# Altium integrated library Wurth_Elektronik_Passive_rev16a.IntLib: 1143 symbols (part 14 of 28)
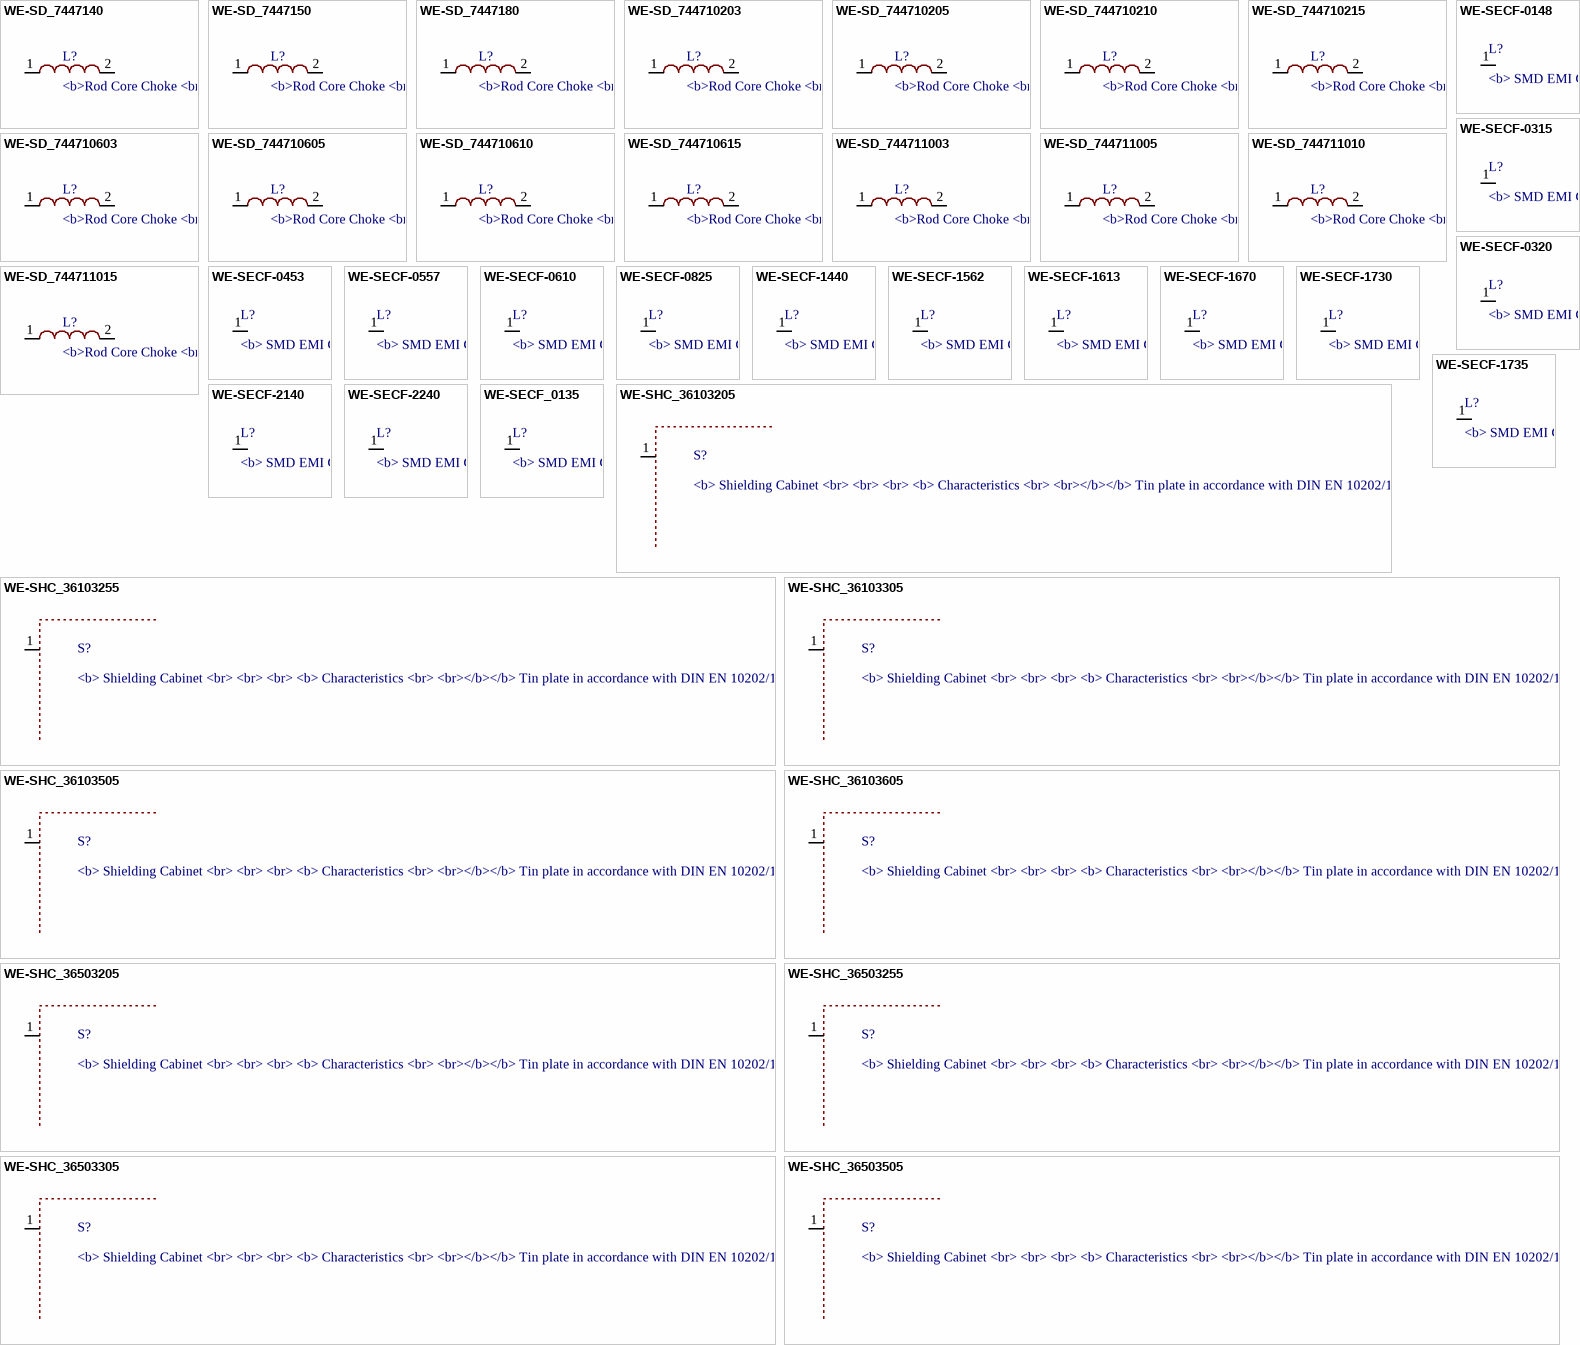
[diagram p71: symbols WE-SD_7447140 to WE-SHC_36503505]

## WE-SECF-1613
designator L?, comment <b> SMD EMI Contact Finger / <br> / <br> / <br><b> Characteristics / <br> / <br></b></b> Material: Copper Beryllium (CuBe) gold-plated (AU) / <br> / <br> Corrosion resistant / <br> / <br> Wear resistant / <br> / <br> High temperatures and mechanical weight have no influence on the excellent connection properties / <br> / <br> Reliable solderability / <br> / <br> Tape & reel packaging / <br> / <br> Perfectly suited for automated placement / <br> / <br> Different types and sizes available / <br> / <br> / <br><b> Applications / <br> / <br></b> Contact between PCB's ground and housing / <br> / <br> Low impedance RF connection between PCBs and/or PCB and metal case / <br> / <br> / </b><br><a href="<br><a href="http://katalog.we-online.de/media/images/eisos/AbsSESF_pf2.jpg" title="Enlarge picture"> / <img src="http://katalog.we-online.de/media/images/eisos/AbsSESF_pf2.jpg" width="320"></a><p> / Details see: <a href="http://katalog.we-online.de/en/pbs/WE-SECF?">http://katalog.we-online.de/en/pbs/WE-SECF?</a><p> / </b> / </b>Updated  by  Dan Xu 2014-07-15<br> / </b>2014 (C) Wurth Elektronik
MANUFACTURER: Würth Elektronik eiSos GmbH; CREATED-BY: Christin Otto; COMPANY-URL: http://www.we-online.de; CREATED-DATE: MAR 2013; DATASHEET-URL: http://katalog.we-online.de/pbs/datasheet/331161702513.pdf
footprint WE-SECF_1613
pins: 1 P$1 (power)

## WE-SECF-1670
designator L?, comment <b> SMD EMI Contact Finger / <br> / <br> / <br><b> Characteristics / <br> / <br></b></b> Material: Copper Beryllium (CuBe) gold-plated (AU) / <br> / <br> Corrosion resistant / <br> / <br> Wear resistant / <br> / <br> High temperatures and mechanical weight have no influence on the excellent connection properties / <br> / <br> Reliable solderability / <br> / <br> Tape & reel packaging / <br> / <br> Perfectly suited for automated placement / <br> / <br> Different types and sizes available / <br> / <br> / <br><b> Applications / <br> / <br></b> Contact between PCB's ground and housing / <br> / <br> Low impedance RF connection between PCBs and/or PCB and metal case / <br> / <br> / </b><br><a href="<br><a href="http://katalog.we-online.de/media/images/eisos/AbsSESF_pf2.jpg" title="Enlarge picture"> / <img src="http://katalog.we-online.de/media/images/eisos/AbsSESF_pf2.jpg" width="320"></a><p> / Details see: <a href="http://katalog.we-online.de/en/pbs/WE-SECF?">http://katalog.we-online.de/en/pbs/WE-SECF?</a><p> / </b> / </b>Updated  by  Dan Xu 2014-07-15<br> / </b>2014 (C) Wurth Elektronik
MANUFACTURER: Würth Elektronik eiSos GmbH; CREATED-BY: Christin Otto; COMPANY-URL: http://www.we-online.de; CREATED-DATE: MAR 2013; DATASHEET-URL: http://katalog.we-online.de/pbs/datasheet/331161452070.pdf
footprint WE-SECF_1670
pins: 1 P$1 (power)

## WE-SECF-1730
designator L?, comment <b> SMD EMI Contact Finger / <br> / <br> / <br><b> Characteristics / <br> / <br></b></b> Material: Copper Beryllium (CuBe) gold-plated (AU) / <br> / <br> Corrosion resistant / <br> / <br> Wear resistant / <br> / <br> High temperatures and mechanical weight have no influence on the excellent connection properties / <br> / <br> Reliable solderability / <br> / <br> Tape & reel packaging / <br> / <br> Perfectly suited for automated placement / <br> / <br> Different types and sizes available / <br> / <br> / <br><b> Applications / <br> / <br></b> Contact between PCB's ground and housing / <br> / <br> Low impedance RF connection between PCBs and/or PCB and metal case / <br> / <br> / </b><br><a href="<br><a href="http://katalog.we-online.de/media/images/eisos/AbsSESF_pf2.jpg" title="Enlarge picture"> / <img src="http://katalog.we-online.de/media/images/eisos/AbsSESF_pf2.jpg" width="320"></a><p> / Details see: <a href="http://katalog.we-online.de/en/pbs/WE-SECF?">http://katalog.we-online.de/en/pbs/WE-SECF?</a><p> / </b> / </b>Updated  by  Dan Xu 2014-07-15<br> / </b>2014 (C) Wurth Elektronik
MANUFACTURER: Würth Elektronik eiSos GmbH; CREATED-BY: Christin Otto; COMPANY-URL: http://www.we-online.de; CREATED-DATE: MAR 2013; DATASHEET-URL: http://katalog.we-online.de/pbs/datasheet/331171302030.pdf
footprint WE-SECF_1730
pins: 1 P$1 (power)

## WE-SECF-1735
designator L?, comment <b> SMD EMI Contact Finger / <br> / <br> / <br><b> Characteristics / <br> / <br></b></b> Material: Copper Beryllium (CuBe) gold-plated (AU) / <br> / <br> Corrosion resistant / <br> / <br> Wear resistant / <br> / <br> High temperatures and mechanical weight have no influence on the excellent connection properties / <br> / <br> Reliable solderability / <br> / <br> Tape & reel packaging / <br> / <br> Perfectly suited for automated placement / <br> / <br> Different types and sizes available / <br> / <br> / <br><b> Applications / <br> / <br></b> Contact between PCB's ground and housing / <br> / <br> Low impedance RF connection between PCBs and/or PCB and metal case / <br> / <br> / </b><br><a href="<br><a href="http://katalog.we-online.de/media/images/eisos/AbsSESF_pf2.jpg" title="Enlarge picture"> / <img src="http://katalog.we-online.de/media/images/eisos/AbsSESF_pf2.jpg" width="320"></a><p> / Details see: <a href="http://katalog.we-online.de/en/pbs/WE-SECF?">http://katalog.we-online.de/en/pbs/WE-SECF?</a><p> / </b> / </b>Updated  by  Dan Xu 2014-07-15<br> / </b>2014 (C) Wurth Elektronik
MANUFACTURER: Würth Elektronik eiSos GmbH; CREATED-BY: Christin Otto; COMPANY-URL: http://www.we-online.de; CREATED-DATE: MAR 2013; DATASHEET-URL: http://katalog.we-online.de/pbs/datasheet/331171302035.pdf
footprint WE-SECF_1735
pins: 1 P$1 (power)

## WE-SECF-2140
designator L?, comment <b> SMD EMI Contact Finger / <br> / <br> / <br><b> Characteristics / <br> / <br></b></b> Material: Copper Beryllium (CuBe) gold-plated (AU) / <br> / <br> Corrosion resistant / <br> / <br> Wear resistant / <br> / <br> High temperatures and mechanical weight have no influence on the excellent connection properties / <br> / <br> Reliable solderability / <br> / <br> Tape & reel packaging / <br> / <br> Perfectly suited for automated placement / <br> / <br> Different types and sizes available / <br> / <br> / <br><b> Applications / <br> / <br></b> Contact between PCB's ground and housing / <br> / <br> Low impedance RF connection between PCBs and/or PCB and metal case / <br> / <br> / </b><br><a href="<br><a href="http://katalog.we-online.de/media/images/eisos/AbsSESF_pf2.jpg" title="Enlarge picture"> / <img src="http://katalog.we-online.de/media/images/eisos/AbsSESF_pf2.jpg" width="320"></a><p> / Details see: <a href="http://katalog.we-online.de/en/pbs/WE-SECF?">http://katalog.we-online.de/en/pbs/WE-SECF?</a><p> / </b> / </b>Updated  by  Dan Xu 2014-07-15<br> / </b>2014 (C) Wurth Elektronik
MANUFACTURER: Würth Elektronik eiSos GmbH; CREATED-BY: Christin Otto; COMPANY-URL: http://www.we-online.de; CREATED-DATE: MAR 2013; DATASHEET-URL: http://katalog.we-online.de/pbs/datasheet/331211503040.pdf
footprint WE-SECF_2140
pins: 1 P$1 (power)

## WE-SECF-2240
designator L?, comment <b> SMD EMI Contact Finger / <br> / <br> / <br><b> Characteristics / <br> / <br></b></b> Material: Copper Beryllium (CuBe) gold-plated (AU) / <br> / <br> Corrosion resistant / <br> / <br> Wear resistant / <br> / <br> High temperatures and mechanical weight have no influence on the excellent connection properties / <br> / <br> Reliable solderability / <br> / <br> Tape & reel packaging / <br> / <br> Perfectly suited for automated placement / <br> / <br> Different types and sizes available / <br> / <br> / <br><b> Applications / <br> / <br></b> Contact between PCB's ground and housing / <br> / <br> Low impedance RF connection between PCBs and/or PCB and metal case / <br> / <br> / </b><br><a href="<br><a href="http://katalog.we-online.de/media/images/eisos/AbsSESF_pf2.jpg" title="Enlarge picture"> / <img src="http://katalog.we-online.de/media/images/eisos/AbsSESF_pf2.jpg" width="320"></a><p> / Details see: <a href="http://katalog.we-online.de/en/pbs/WE-SECF?">http://katalog.we-online.de/en/pbs/WE-SECF?</a><p> / </b> / </b>Updated  by  Dan Xu 2014-07-15<br> / </b>2014 (C) Wurth Elektronik
MANUFACTURER: Würth Elektronik eiSos GmbH; CREATED-BY: Christin Otto; COMPANY-URL: http://www.we-online.de; CREATED-DATE: MAR 2013; DATASHEET-URL: http://katalog.we-online.de/pbs/datasheet/331221602040.pdf
footprint WE-SECF_2240
pins: 1 P$1 (power)

## WE-SECF_0135
designator L?, comment <b> SMD EMI Contact Finger / <br> / <br> / <br><b> Characteristics / <br> / <br></b></b> Material: Copper Beryllium (CuBe) gold-plated (AU) / <br> / <br> Corrosion resistant / <br> / <br> Wear resistant / <br> / <br> High temperatures and mechanical weight have no influence on the excellent connection properties / <br> / <br> Reliable solderability / <br> / <br> Tape & reel packaging / <br> / <br> Perfectly suited for automated placement / <br> / <br> Different types and sizes available / <br> / <br> / <br><b> Applications / <br> / <br></b> Contact between PCB's ground and housing / <br> / <br> Low impedance RF connection between PCBs and/or PCB and metal case / <br> / <br> / </b><br><a href="<br><a href="http://katalog.we-online.de/media/images/eisos/AbsSESF_pf2.jpg" title="Enlarge picture"> / <img src="http://katalog.we-online.de/media/images/eisos/AbsSESF_pf2.jpg" width="320"></a><p> / Details see: <a href="http://katalog.we-online.de/en/pbs/WE-SECF?">http://katalog.we-online.de/en/pbs/WE-SECF?</a><p> / </b> / </b>Updated  by  Dan Xu 2014-07-15<br> / </b>2014 (C) Wurth Elektronik
footprint WE-SECF_0135
pins: 1 P$1 (power)

## WE-SHC_36103205
designator S?, comment <b> Shielding Cabinet / <br> / <br> / <br> <b> Characteristics / <br> / <br></b></b> Tin plate in accordance with DIN EN 10202/10203 / <br> / <br> Shielding effectiveness up to 55 dB / <br> / <br> Two-part case consisting of a solderable grid frame (SMD/THT) and a removable cover / <br> / <br> / <br><b> Applications / <br> / <br></b> To prevent EMI radiation from PCB and to keep sensitivity low of: / <br> - RF output stages / <br> - RF input and amplifier stages; / <br> - Oscillators / <br> - EMC sensitive parts in plastic cases / <br> / <br> / <br> / </b><br><a href="<br><a href="http://katalog.we-online.de/media/images/eisos/AbsSHC_pf2.jpg" title="Enlarge picture"> / <img src="http://katalog.we-online.de/media/thumbs2/eisos/thb_AbsSHC_pf2.jpg" width="320"></a><p> / Details see: <a href="http://katalog.we-online.de/en/pbs/WE-SHC?m">http://katalog.we-online.de/en/pbs/WE-SHC?m</a><p> / </b> / </b>Updated  by  Dan Xu 2014-07-11<br> / </b>2014 (C) Wurth Elektronik
footprint WE-SHC_36103205
pins: 1 GND (power)

## WE-SHC_36103255
designator S?, comment <b> Shielding Cabinet / <br> / <br> / <br> <b> Characteristics / <br> / <br></b></b> Tin plate in accordance with DIN EN 10202/10203 / <br> / <br> Shielding effectiveness up to 55 dB / <br> / <br> Two-part case consisting of a solderable grid frame (SMD/THT) and a removable cover / <br> / <br> / <br><b> Applications / <br> / <br></b> To prevent EMI radiation from PCB and to keep sensitivity low of: / <br> - RF output stages / <br> - RF input and amplifier stages; / <br> - Oscillators / <br> - EMC sensitive parts in plastic cases / <br> / <br> / <br> / </b><br><a href="<br><a href="http://katalog.we-online.de/media/images/eisos/AbsSHC_pf2.jpg" title="Enlarge picture"> / <img src="http://katalog.we-online.de/media/thumbs2/eisos/thb_AbsSHC_pf2.jpg" width="320"></a><p> / Details see: <a href="http://katalog.we-online.de/en/pbs/WE-SHC?m">http://katalog.we-online.de/en/pbs/WE-SHC?m</a><p> / </b> / </b>Updated  by  Dan Xu 2014-07-11<br> / </b>2014 (C) Wurth Elektronik
footprint WE-SHC_36103255
pins: 1 GND (power)

## WE-SHC_36103305
designator S?, comment <b> Shielding Cabinet / <br> / <br> / <br> <b> Characteristics / <br> / <br></b></b> Tin plate in accordance with DIN EN 10202/10203 / <br> / <br> Shielding effectiveness up to 55 dB / <br> / <br> Two-part case consisting of a solderable grid frame (SMD/THT) and a removable cover / <br> / <br> / <br><b> Applications / <br> / <br></b> To prevent EMI radiation from PCB and to keep sensitivity low of: / <br> - RF output stages / <br> - RF input and amplifier stages; / <br> - Oscillators / <br> - EMC sensitive parts in plastic cases / <br> / <br> / <br> / </b><br><a href="<br><a href="http://katalog.we-online.de/media/images/eisos/AbsSHC_pf2.jpg" title="Enlarge picture"> / <img src="http://katalog.we-online.de/media/thumbs2/eisos/thb_AbsSHC_pf2.jpg" width="320"></a><p> / Details see: <a href="http://katalog.we-online.de/en/pbs/WE-SHC?m">http://katalog.we-online.de/en/pbs/WE-SHC?m</a><p> / </b> / </b>Updated  by  Dan Xu 2014-07-11<br> / </b>2014 (C) Wurth Elektronik
footprint WE-SHC_36103305
pins: 1 GND (power)

## WE-SHC_36103505
designator S?, comment <b> Shielding Cabinet / <br> / <br> / <br> <b> Characteristics / <br> / <br></b></b> Tin plate in accordance with DIN EN 10202/10203 / <br> / <br> Shielding effectiveness up to 55 dB / <br> / <br> Two-part case consisting of a solderable grid frame (SMD/THT) and a removable cover / <br> / <br> / <br><b> Applications / <br> / <br></b> To prevent EMI radiation from PCB and to keep sensitivity low of: / <br> - RF output stages / <br> - RF input and amplifier stages; / <br> - Oscillators / <br> - EMC sensitive parts in plastic cases / <br> / <br> / <br> / </b><br><a href="<br><a href="http://katalog.we-online.de/media/images/eisos/AbsSHC_pf2.jpg" title="Enlarge picture"> / <img src="http://katalog.we-online.de/media/thumbs2/eisos/thb_AbsSHC_pf2.jpg" width="320"></a><p> / Details see: <a href="http://katalog.we-online.de/en/pbs/WE-SHC?m">http://katalog.we-online.de/en/pbs/WE-SHC?m</a><p> / </b> / </b>Updated  by  Dan Xu 2014-07-11<br> / </b>2014 (C) Wurth Elektronik
footprint WE-SHC_36103505
pins: 1 GND (power)

## WE-SHC_36103605
designator S?, comment <b> Shielding Cabinet / <br> / <br> / <br> <b> Characteristics / <br> / <br></b></b> Tin plate in accordance with DIN EN 10202/10203 / <br> / <br> Shielding effectiveness up to 55 dB / <br> / <br> Two-part case consisting of a solderable grid frame (SMD/THT) and a removable cover / <br> / <br> / <br><b> Applications / <br> / <br></b> To prevent EMI radiation from PCB and to keep sensitivity low of: / <br> - RF output stages / <br> - RF input and amplifier stages; / <br> - Oscillators / <br> - EMC sensitive parts in plastic cases / <br> / <br> / <br> / </b><br><a href="<br><a href="http://katalog.we-online.de/media/images/eisos/AbsSHC_pf2.jpg" title="Enlarge picture"> / <img src="http://katalog.we-online.de/media/thumbs2/eisos/thb_AbsSHC_pf2.jpg" width="320"></a><p> / Details see: <a href="http://katalog.we-online.de/en/pbs/WE-SHC?m">http://katalog.we-online.de/en/pbs/WE-SHC?m</a><p> / </b> / </b>Updated  by  Dan Xu 2014-07-11<br> / </b>2014 (C) Wurth Elektronik
footprint WE-SHC_36103605
pins: 1 GND (power)

## WE-SHC_36503205
designator S?, comment <b> Shielding Cabinet / <br> / <br> / <br> <b> Characteristics / <br> / <br></b></b> Tin plate in accordance with DIN EN 10202/10203 / <br> / <br> Shielding effectiveness up to 55 dB / <br> / <br> Two-part case consisting of a solderable grid frame (SMD/THT) and a removable cover / <br> / <br> / <br><b> Applications / <br> / <br></b> To prevent EMI radiation from PCB and to keep sensitivity low of: / <br> - RF output stages / <br> - RF input and amplifier stages; / <br> - Oscillators / <br> - EMC sensitive parts in plastic cases / <br> / <br> / <br> / </b><br><a href="<br><a href="http://katalog.we-online.de/media/images/eisos/AbsSHC_pf2.jpg" title="Enlarge picture"> / <img src="http://katalog.we-online.de/media/thumbs2/eisos/thb_AbsSHC_pf2.jpg" width="320"></a><p> / Details see: <a href="http://katalog.we-online.de/en/pbs/WE-SHC?m">http://katalog.we-online.de/en/pbs/WE-SHC?m</a><p> / </b> / </b>Updated  by  Dan Xu 2014-07-11<br> / </b>2014 (C) Wurth Elektronik
footprint WE-SHC_36503205
pins: 1 GND (power)

## WE-SHC_36503255
designator S?, comment <b> Shielding Cabinet / <br> / <br> / <br> <b> Characteristics / <br> / <br></b></b> Tin plate in accordance with DIN EN 10202/10203 / <br> / <br> Shielding effectiveness up to 55 dB / <br> / <br> Two-part case consisting of a solderable grid frame (SMD/THT) and a removable cover / <br> / <br> / <br><b> Applications / <br> / <br></b> To prevent EMI radiation from PCB and to keep sensitivity low of: / <br> - RF output stages / <br> - RF input and amplifier stages; / <br> - Oscillators / <br> - EMC sensitive parts in plastic cases / <br> / <br> / <br> / </b><br><a href="<br><a href="http://katalog.we-online.de/media/images/eisos/AbsSHC_pf2.jpg" title="Enlarge picture"> / <img src="http://katalog.we-online.de/media/thumbs2/eisos/thb_AbsSHC_pf2.jpg" width="320"></a><p> / Details see: <a href="http://katalog.we-online.de/en/pbs/WE-SHC?m">http://katalog.we-online.de/en/pbs/WE-SHC?m</a><p> / </b> / </b>Updated  by  Dan Xu 2014-07-11<br> / </b>2014 (C) Wurth Elektronik
footprint WE-SHC_36503255
pins: 1 GND (power)

## WE-SHC_36503305
designator S?, comment <b> Shielding Cabinet / <br> / <br> / <br> <b> Characteristics / <br> / <br></b></b> Tin plate in accordance with DIN EN 10202/10203 / <br> / <br> Shielding effectiveness up to 55 dB / <br> / <br> Two-part case consisting of a solderable grid frame (SMD/THT) and a removable cover / <br> / <br> / <br><b> Applications / <br> / <br></b> To prevent EMI radiation from PCB and to keep sensitivity low of: / <br> - RF output stages / <br> - RF input and amplifier stages; / <br> - Oscillators / <br> - EMC sensitive parts in plastic cases / <br> / <br> / <br> / </b><br><a href="<br><a href="http://katalog.we-online.de/media/images/eisos/AbsSHC_pf2.jpg" title="Enlarge picture"> / <img src="http://katalog.we-online.de/media/thumbs2/eisos/thb_AbsSHC_pf2.jpg" width="320"></a><p> / Details see: <a href="http://katalog.we-online.de/en/pbs/WE-SHC?m">http://katalog.we-online.de/en/pbs/WE-SHC?m</a><p> / </b> / </b>Updated  by  Dan Xu 2014-07-11<br> / </b>2014 (C) Wurth Elektronik
footprint WE-SHC_36503305
pins: 1 GND (power)

## WE-SHC_36503505
designator S?, comment <b> Shielding Cabinet / <br> / <br> / <br> <b> Characteristics / <br> / <br></b></b> Tin plate in accordance with DIN EN 10202/10203 / <br> / <br> Shielding effectiveness up to 55 dB / <br> / <br> Two-part case consisting of a solderable grid frame (SMD/THT) and a removable cover / <br> / <br> / <br><b> Applications / <br> / <br></b> To prevent EMI radiation from PCB and to keep sensitivity low of: / <br> - RF output stages / <br> - RF input and amplifier stages; / <br> - Oscillators / <br> - EMC sensitive parts in plastic cases / <br> / <br> / <br> / </b><br><a href="<br><a href="http://katalog.we-online.de/media/images/eisos/AbsSHC_pf2.jpg" title="Enlarge picture"> / <img src="http://katalog.we-online.de/media/thumbs2/eisos/thb_AbsSHC_pf2.jpg" width="320"></a><p> / Details see: <a href="http://katalog.we-online.de/en/pbs/WE-SHC?m">http://katalog.we-online.de/en/pbs/WE-SHC?m</a><p> / </b> / </b>Updated  by  Dan Xu 2014-07-11<br> / </b>2014 (C) Wurth Elektronik
footprint WE-SHC_36503505
pins: 1 GND (power)

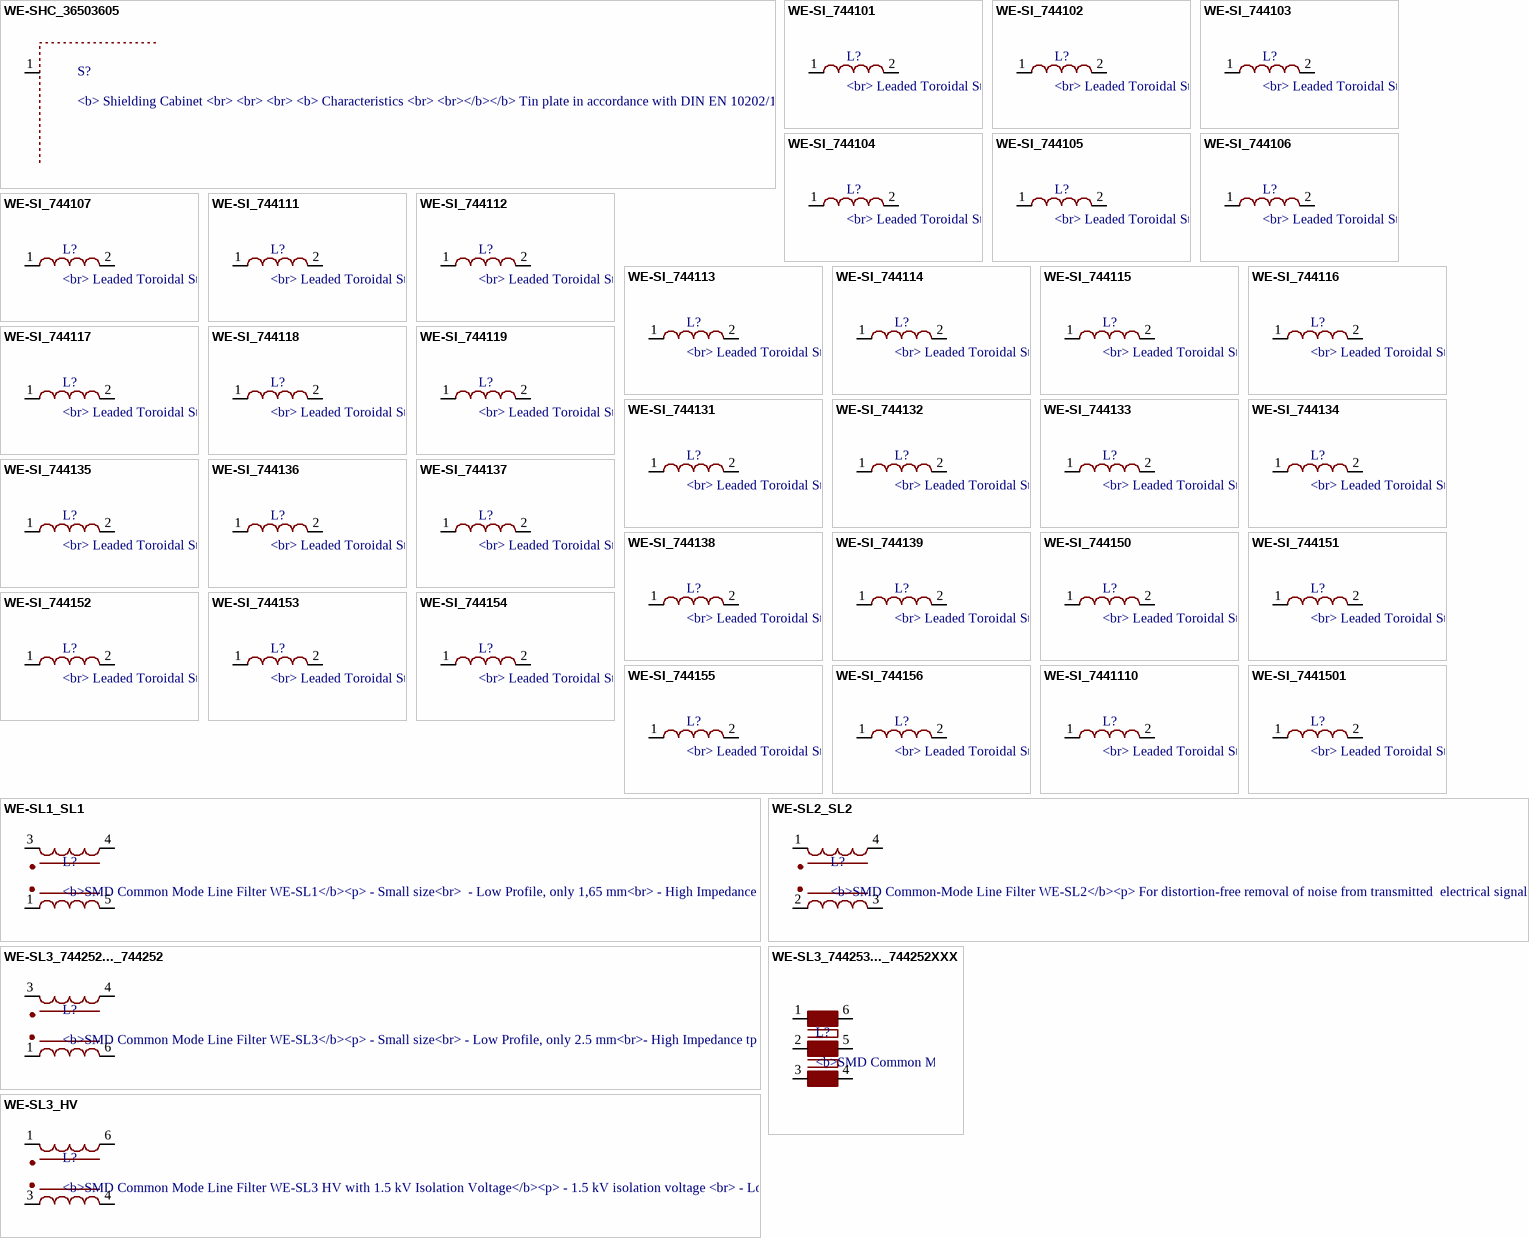
[diagram p43: symbols WE-SHC_36503605 to WE-SL3_HV]

## WE-SHC_36503605
designator S?, comment <b> Shielding Cabinet / <br> / <br> / <br> <b> Characteristics / <br> / <br></b></b> Tin plate in accordance with DIN EN 10202/10203 / <br> / <br> Shielding effectiveness up to 55 dB / <br> / <br> Two-part case consisting of a solderable grid frame (SMD/THT) and a removable cover / <br> / <br> / <br><b> Applications / <br> / <br></b> To prevent EMI radiation from PCB and to keep sensitivity low of: / <br> - RF output stages / <br> - RF input and amplifier stages; / <br> - Oscillators / <br> - EMC sensitive parts in plastic cases / <br> / <br> / <br> / </b><br><a href="<br><a href="http://katalog.we-online.de/media/images/eisos/AbsSHC_pf2.jpg" title="Enlarge picture"> / <img src="http://katalog.we-online.de/media/thumbs2/eisos/thb_AbsSHC_pf2.jpg" width="320"></a><p> / Details see: <a href="http://katalog.we-online.de/en/pbs/WE-SHC?m">http://katalog.we-online.de/en/pbs/WE-SHC?m</a><p> / </b> / </b>Updated  by  Dan Xu 2014-07-11<br> / </b>2014 (C) Wurth Elektronik
footprint WE-SHC_36503605
pins: 1 GND (power)

## WE-SI_744101
designator L?, comment <br> Leaded Toroidal Storage Choke / <br> / <br> / <br><b> Characteristics / <br> / <br></b></b> Low magnetic stray field / <br> / <br> Low leakage and minimal noise because of the toroidal core made of iron powder / <br> / <br> Available for rated currents 0.5 A, 1 A, 3 A and 5 A / <br> / <br> Custom designs on request / <br> / <br> / <br><b> Applications / <br> / <br></b> Perfectly suitable for switching regulators from / <br> – Texas Instruments (LM) / <br> – Linear Technology (LT) / <br>– Maxim / <br> / <br> Used for example in switching power supplies and voltage transformers / <br> / <br> Switching regulators up to 100 kHz / <br> / <br> / <br> / <br><a href="http://katalog.we-online.de/media/images/eisos/IndSI_pf2.jpg" title="Enlarge picture"> / <img src="http://katalog.we-online.de/media/images/eisos/IndSI_pf2.jpg" width="320"></a><p> / Details see: <a href="http://katalog.we-online.de/en/pbs/WE-SI/744101">http://katalog.we-online.de/en/pbs/WE-SI/744101</a><p> / </b>Updated  by  Dan Xu 2014-06-10<br> / </b>2014 (C) Wurth Elektronik
footprint WE-SI_744101
pins: 1, 2

## WE-SI_744102
designator L?, comment <br> Leaded Toroidal Storage Choke / <br> / <br> / <br><b> Characteristics / <br> / <br></b></b> Low magnetic stray field / <br> / <br> Low leakage and minimal noise because of the toroidal core made of iron powder / <br> / <br> Available for rated currents 0.5 A, 1 A, 3 A and 5 A / <br> / <br> Custom designs on request / <br> / <br> / <br><b> Applications / <br> / <br></b> Perfectly suitable for switching regulators from / <br> – Texas Instruments (LM) / <br> – Linear Technology (LT) / <br>– Maxim / <br> / <br> Used for example in switching power supplies and voltage transformers / <br> / <br> Switching regulators up to 100 kHz / <br> / <br> / <br> / <br><a href="http://katalog.we-online.de/media/images/eisos/IndSI_pf2.jpg" title="Enlarge picture"> / <img src="http://katalog.we-online.de/media/images/eisos/IndSI_pf2.jpg" width="320"></a><p> / Details see: <a href="http://katalog.we-online.de/en/pbs/WE-SI/744101">http://katalog.we-online.de/en/pbs/WE-SI/744101</a><p> / </b>Updated  by  Dan Xu 2014-06-10<br> / </b>2014 (C) Wurth Elektronik
footprint WE-SI_744102
pins: 1, 2

## WE-SI_744103
designator L?, comment <br> Leaded Toroidal Storage Choke / <br> / <br> / <br><b> Characteristics / <br> / <br></b></b> Low magnetic stray field / <br> / <br> Low leakage and minimal noise because of the toroidal core made of iron powder / <br> / <br> Available for rated currents 0.5 A, 1 A, 3 A and 5 A / <br> / <br> Custom designs on request / <br> / <br> / <br><b> Applications / <br> / <br></b> Perfectly suitable for switching regulators from / <br> – Texas Instruments (LM) / <br> – Linear Technology (LT) / <br>– Maxim / <br> / <br> Used for example in switching power supplies and voltage transformers / <br> / <br> Switching regulators up to 100 kHz / <br> / <br> / <br> / <br><a href="http://katalog.we-online.de/media/images/eisos/IndSI_pf2.jpg" title="Enlarge picture"> / <img src="http://katalog.we-online.de/media/images/eisos/IndSI_pf2.jpg" width="320"></a><p> / Details see: <a href="http://katalog.we-online.de/en/pbs/WE-SI/744101">http://katalog.we-online.de/en/pbs/WE-SI/744101</a><p> / </b>Updated  by  Dan Xu 2014-06-10<br> / </b>2014 (C) Wurth Elektronik
footprint WE-SI_744103
pins: 1, 2

## WE-SI_744104
designator L?, comment <br> Leaded Toroidal Storage Choke / <br> / <br> / <br><b> Characteristics / <br> / <br></b></b> Low magnetic stray field / <br> / <br> Low leakage and minimal noise because of the toroidal core made of iron powder / <br> / <br> Available for rated currents 0.5 A, 1 A, 3 A and 5 A / <br> / <br> Custom designs on request / <br> / <br> / <br><b> Applications / <br> / <br></b> Perfectly suitable for switching regulators from / <br> – Texas Instruments (LM) / <br> – Linear Technology (LT) / <br>– Maxim / <br> / <br> Used for example in switching power supplies and voltage transformers / <br> / <br> Switching regulators up to 100 kHz / <br> / <br> / <br> / <br><a href="http://katalog.we-online.de/media/images/eisos/IndSI_pf2.jpg" title="Enlarge picture"> / <img src="http://katalog.we-online.de/media/images/eisos/IndSI_pf2.jpg" width="320"></a><p> / Details see: <a href="http://katalog.we-online.de/en/pbs/WE-SI/744101">http://katalog.we-online.de/en/pbs/WE-SI/744101</a><p> / </b>Updated  by  Dan Xu 2014-06-10<br> / </b>2014 (C) Wurth Elektronik
footprint WE-SI_744104
pins: 1, 2

## WE-SI_744105
designator L?, comment <br> Leaded Toroidal Storage Choke / <br> / <br> / <br><b> Characteristics / <br> / <br></b></b> Low magnetic stray field / <br> / <br> Low leakage and minimal noise because of the toroidal core made of iron powder / <br> / <br> Available for rated currents 0.5 A, 1 A, 3 A and 5 A / <br> / <br> Custom designs on request / <br> / <br> / <br><b> Applications / <br> / <br></b> Perfectly suitable for switching regulators from / <br> – Texas Instruments (LM) / <br> – Linear Technology (LT) / <br>– Maxim / <br> / <br> Used for example in switching power supplies and voltage transformers / <br> / <br> Switching regulators up to 100 kHz / <br> / <br> / <br> / <br><a href="http://katalog.we-online.de/media/images/eisos/IndSI_pf2.jpg" title="Enlarge picture"> / <img src="http://katalog.we-online.de/media/images/eisos/IndSI_pf2.jpg" width="320"></a><p> / Details see: <a href="http://katalog.we-online.de/en/pbs/WE-SI/744101">http://katalog.we-online.de/en/pbs/WE-SI/744101</a><p> / </b>Updated  by  Dan Xu 2014-06-10<br> / </b>2014 (C) Wurth Elektronik
footprint WE-SI_744105
pins: 1, 2

## WE-SI_744106
designator L?, comment <br> Leaded Toroidal Storage Choke / <br> / <br> / <br><b> Characteristics / <br> / <br></b></b> Low magnetic stray field / <br> / <br> Low leakage and minimal noise because of the toroidal core made of iron powder / <br> / <br> Available for rated currents 0.5 A, 1 A, 3 A and 5 A / <br> / <br> Custom designs on request / <br> / <br> / <br><b> Applications / <br> / <br></b> Perfectly suitable for switching regulators from / <br> – Texas Instruments (LM) / <br> – Linear Technology (LT) / <br>– Maxim / <br> / <br> Used for example in switching power supplies and voltage transformers / <br> / <br> Switching regulators up to 100 kHz / <br> / <br> / <br> / <br><a href="http://katalog.we-online.de/media/images/eisos/IndSI_pf2.jpg" title="Enlarge picture"> / <img src="http://katalog.we-online.de/media/images/eisos/IndSI_pf2.jpg" width="320"></a><p> / Details see: <a href="http://katalog.we-online.de/en/pbs/WE-SI/744101">http://katalog.we-online.de/en/pbs/WE-SI/744101</a><p> / </b>Updated  by  Dan Xu 2014-06-10<br> / </b>2014 (C) Wurth Elektronik
footprint WE-SI_744106
pins: 1, 2

## WE-SI_744107
designator L?, comment <br> Leaded Toroidal Storage Choke / <br> / <br> / <br><b> Characteristics / <br> / <br></b></b> Low magnetic stray field / <br> / <br> Low leakage and minimal noise because of the toroidal core made of iron powder / <br> / <br> Available for rated currents 0.5 A, 1 A, 3 A and 5 A / <br> / <br> Custom designs on request / <br> / <br> / <br><b> Applications / <br> / <br></b> Perfectly suitable for switching regulators from / <br> – Texas Instruments (LM) / <br> – Linear Technology (LT) / <br>– Maxim / <br> / <br> Used for example in switching power supplies and voltage transformers / <br> / <br> Switching regulators up to 100 kHz / <br> / <br> / <br> / <br><a href="http://katalog.we-online.de/media/images/eisos/IndSI_pf2.jpg" title="Enlarge picture"> / <img src="http://katalog.we-online.de/media/images/eisos/IndSI_pf2.jpg" width="320"></a><p> / Details see: <a href="http://katalog.we-online.de/en/pbs/WE-SI/744101">http://katalog.we-online.de/en/pbs/WE-SI/744101</a><p> / </b>Updated  by  Dan Xu 2014-06-10<br> / </b>2014 (C) Wurth Elektronik
footprint WE-SI_744107
pins: 1, 2

## WE-SI_744111
designator L?, comment <br> Leaded Toroidal Storage Choke / <br> / <br> / <br><b> Characteristics / <br> / <br></b></b> Low magnetic stray field / <br> / <br> Low leakage and minimal noise because of the toroidal core made of iron powder / <br> / <br> Available for rated currents 0.5 A, 1 A, 3 A and 5 A / <br> / <br> Custom designs on request / <br> / <br> / <br><b> Applications / <br> / <br></b> Perfectly suitable for switching regulators from / <br> – Texas Instruments (LM) / <br> – Linear Technology (LT) / <br>– Maxim / <br> / <br> Used for example in switching power supplies and voltage transformers / <br> / <br> Switching regulators up to 100 kHz / <br> / <br> / <br> / <br><a href="http://katalog.we-online.de/media/images/eisos/IndSI_pf2.jpg" title="Enlarge picture"> / <img src="http://katalog.we-online.de/media/images/eisos/IndSI_pf2.jpg" width="320"></a><p> / Details see: <a href="http://katalog.we-online.de/en/pbs/WE-SI/744101">http://katalog.we-online.de/en/pbs/WE-SI/744101</a><p> / </b>Updated  by  Dan Xu 2014-06-10<br> / </b>2014 (C) Wurth Elektronik
footprint WE-SI_744111
pins: 1, 2

## WE-SI_744112
designator L?, comment <br> Leaded Toroidal Storage Choke / <br> / <br> / <br><b> Characteristics / <br> / <br></b></b> Low magnetic stray field / <br> / <br> Low leakage and minimal noise because of the toroidal core made of iron powder / <br> / <br> Available for rated currents 0.5 A, 1 A, 3 A and 5 A / <br> / <br> Custom designs on request / <br> / <br> / <br><b> Applications / <br> / <br></b> Perfectly suitable for switching regulators from / <br> – Texas Instruments (LM) / <br> – Linear Technology (LT) / <br>– Maxim / <br> / <br> Used for example in switching power supplies and voltage transformers / <br> / <br> Switching regulators up to 100 kHz / <br> / <br> / <br> / <br><a href="http://katalog.we-online.de/media/images/eisos/IndSI_pf2.jpg" title="Enlarge picture"> / <img src="http://katalog.we-online.de/media/images/eisos/IndSI_pf2.jpg" width="320"></a><p> / Details see: <a href="http://katalog.we-online.de/en/pbs/WE-SI/744101">http://katalog.we-online.de/en/pbs/WE-SI/744101</a><p> / </b>Updated  by  Dan Xu 2014-06-10<br> / </b>2014 (C) Wurth Elektronik
footprint WE-SI_744112
pins: 1, 2

## WE-SI_744113
designator L?, comment <br> Leaded Toroidal Storage Choke / <br> / <br> / <br><b> Characteristics / <br> / <br></b></b> Low magnetic stray field / <br> / <br> Low leakage and minimal noise because of the toroidal core made of iron powder / <br> / <br> Available for rated currents 0.5 A, 1 A, 3 A and 5 A / <br> / <br> Custom designs on request / <br> / <br> / <br><b> Applications / <br> / <br></b> Perfectly suitable for switching regulators from / <br> – Texas Instruments (LM) / <br> – Linear Technology (LT) / <br>– Maxim / <br> / <br> Used for example in switching power supplies and voltage transformers / <br> / <br> Switching regulators up to 100 kHz / <br> / <br> / <br> / <br><a href="http://katalog.we-online.de/media/images/eisos/IndSI_pf2.jpg" title="Enlarge picture"> / <img src="http://katalog.we-online.de/media/images/eisos/IndSI_pf2.jpg" width="320"></a><p> / Details see: <a href="http://katalog.we-online.de/en/pbs/WE-SI/744101">http://katalog.we-online.de/en/pbs/WE-SI/744101</a><p> / </b>Updated  by  Dan Xu 2014-06-10<br> / </b>2014 (C) Wurth Elektronik
footprint WE-SI_744113
pins: 1, 2

## WE-SI_744114
designator L?, comment <br> Leaded Toroidal Storage Choke / <br> / <br> / <br><b> Characteristics / <br> / <br></b></b> Low magnetic stray field / <br> / <br> Low leakage and minimal noise because of the toroidal core made of iron powder / <br> / <br> Available for rated currents 0.5 A, 1 A, 3 A and 5 A / <br> / <br> Custom designs on request / <br> / <br> / <br><b> Applications / <br> / <br></b> Perfectly suitable for switching regulators from / <br> – Texas Instruments (LM) / <br> – Linear Technology (LT) / <br>– Maxim / <br> / <br> Used for example in switching power supplies and voltage transformers / <br> / <br> Switching regulators up to 100 kHz / <br> / <br> / <br> / <br><a href="http://katalog.we-online.de/media/images/eisos/IndSI_pf2.jpg" title="Enlarge picture"> / <img src="http://katalog.we-online.de/media/images/eisos/IndSI_pf2.jpg" width="320"></a><p> / Details see: <a href="http://katalog.we-online.de/en/pbs/WE-SI/744101">http://katalog.we-online.de/en/pbs/WE-SI/744101</a><p> / </b>Updated  by  Dan Xu 2014-06-10<br> / </b>2014 (C) Wurth Elektronik
footprint WE-SI_744114
pins: 1, 2

## WE-SI_744115
designator L?, comment <br> Leaded Toroidal Storage Choke / <br> / <br> / <br><b> Characteristics / <br> / <br></b></b> Low magnetic stray field / <br> / <br> Low leakage and minimal noise because of the toroidal core made of iron powder / <br> / <br> Available for rated currents 0.5 A, 1 A, 3 A and 5 A / <br> / <br> Custom designs on request / <br> / <br> / <br><b> Applications / <br> / <br></b> Perfectly suitable for switching regulators from / <br> – Texas Instruments (LM) / <br> – Linear Technology (LT) / <br>– Maxim / <br> / <br> Used for example in switching power supplies and voltage transformers / <br> / <br> Switching regulators up to 100 kHz / <br> / <br> / <br> / <br><a href="http://katalog.we-online.de/media/images/eisos/IndSI_pf2.jpg" title="Enlarge picture"> / <img src="http://katalog.we-online.de/media/images/eisos/IndSI_pf2.jpg" width="320"></a><p> / Details see: <a href="http://katalog.we-online.de/en/pbs/WE-SI/744101">http://katalog.we-online.de/en/pbs/WE-SI/744101</a><p> / </b>Updated  by  Dan Xu 2014-06-10<br> / </b>2014 (C) Wurth Elektronik
footprint WE-SI_744115
pins: 1, 2

## WE-SI_744116
designator L?, comment <br> Leaded Toroidal Storage Choke / <br> / <br> / <br><b> Characteristics / <br> / <br></b></b> Low magnetic stray field / <br> / <br> Low leakage and minimal noise because of the toroidal core made of iron powder / <br> / <br> Available for rated currents 0.5 A, 1 A, 3 A and 5 A / <br> / <br> Custom designs on request / <br> / <br> / <br><b> Applications / <br> / <br></b> Perfectly suitable for switching regulators from / <br> – Texas Instruments (LM) / <br> – Linear Technology (LT) / <br>– Maxim / <br> / <br> Used for example in switching power supplies and voltage transformers / <br> / <br> Switching regulators up to 100 kHz / <br> / <br> / <br> / <br><a href="http://katalog.we-online.de/media/images/eisos/IndSI_pf2.jpg" title="Enlarge picture"> / <img src="http://katalog.we-online.de/media/images/eisos/IndSI_pf2.jpg" width="320"></a><p> / Details see: <a href="http://katalog.we-online.de/en/pbs/WE-SI/744101">http://katalog.we-online.de/en/pbs/WE-SI/744101</a><p> / </b>Updated  by  Dan Xu 2014-06-10<br> / </b>2014 (C) Wurth Elektronik
footprint WE-SI_744116
pins: 1, 2

## WE-SI_744117
designator L?, comment <br> Leaded Toroidal Storage Choke / <br> / <br> / <br><b> Characteristics / <br> / <br></b></b> Low magnetic stray field / <br> / <br> Low leakage and minimal noise because of the toroidal core made of iron powder / <br> / <br> Available for rated currents 0.5 A, 1 A, 3 A and 5 A / <br> / <br> Custom designs on request / <br> / <br> / <br><b> Applications / <br> / <br></b> Perfectly suitable for switching regulators from / <br> – Texas Instruments (LM) / <br> – Linear Technology (LT) / <br>– Maxim / <br> / <br> Used for example in switching power supplies and voltage transformers / <br> / <br> Switching regulators up to 100 kHz / <br> / <br> / <br> / <br><a href="http://katalog.we-online.de/media/images/eisos/IndSI_pf2.jpg" title="Enlarge picture"> / <img src="http://katalog.we-online.de/media/images/eisos/IndSI_pf2.jpg" width="320"></a><p> / Details see: <a href="http://katalog.we-online.de/en/pbs/WE-SI/744101">http://katalog.we-online.de/en/pbs/WE-SI/744101</a><p> / </b>Updated  by  Dan Xu 2014-06-10<br> / </b>2014 (C) Wurth Elektronik
footprint WE-SI_744117
pins: 1, 2

## WE-SI_744118
designator L?, comment <br> Leaded Toroidal Storage Choke / <br> / <br> / <br><b> Characteristics / <br> / <br></b></b> Low magnetic stray field / <br> / <br> Low leakage and minimal noise because of the toroidal core made of iron powder / <br> / <br> Available for rated currents 0.5 A, 1 A, 3 A and 5 A / <br> / <br> Custom designs on request / <br> / <br> / <br><b> Applications / <br> / <br></b> Perfectly suitable for switching regulators from / <br> – Texas Instruments (LM) / <br> – Linear Technology (LT) / <br>– Maxim / <br> / <br> Used for example in switching power supplies and voltage transformers / <br> / <br> Switching regulators up to 100 kHz / <br> / <br> / <br> / <br><a href="http://katalog.we-online.de/media/images/eisos/IndSI_pf2.jpg" title="Enlarge picture"> / <img src="http://katalog.we-online.de/media/images/eisos/IndSI_pf2.jpg" width="320"></a><p> / Details see: <a href="http://katalog.we-online.de/en/pbs/WE-SI/744101">http://katalog.we-online.de/en/pbs/WE-SI/744101</a><p> / </b>Updated  by  Dan Xu 2014-06-10<br> / </b>2014 (C) Wurth Elektronik
footprint WE-SI_744118
pins: 1, 2

## WE-SI_744119
designator L?, comment <br> Leaded Toroidal Storage Choke / <br> / <br> / <br><b> Characteristics / <br> / <br></b></b> Low magnetic stray field / <br> / <br> Low leakage and minimal noise because of the toroidal core made of iron powder / <br> / <br> Available for rated currents 0.5 A, 1 A, 3 A and 5 A / <br> / <br> Custom designs on request / <br> / <br> / <br><b> Applications / <br> / <br></b> Perfectly suitable for switching regulators from / <br> – Texas Instruments (LM) / <br> – Linear Technology (LT) / <br>– Maxim / <br> / <br> Used for example in switching power supplies and voltage transformers / <br> / <br> Switching regulators up to 100 kHz / <br> / <br> / <br> / <br><a href="http://katalog.we-online.de/media/images/eisos/IndSI_pf2.jpg" title="Enlarge picture"> / <img src="http://katalog.we-online.de/media/images/eisos/IndSI_pf2.jpg" width="320"></a><p> / Details see: <a href="http://katalog.we-online.de/en/pbs/WE-SI/744101">http://katalog.we-online.de/en/pbs/WE-SI/744101</a><p> / </b>Updated  by  Dan Xu 2014-06-10<br> / </b>2014 (C) Wurth Elektronik
footprint WE-SI_744119
pins: 1, 2

## WE-SI_744131
designator L?, comment <br> Leaded Toroidal Storage Choke / <br> / <br> / <br><b> Characteristics / <br> / <br></b></b> Low magnetic stray field / <br> / <br> Low leakage and minimal noise because of the toroidal core made of iron powder / <br> / <br> Available for rated currents 0.5 A, 1 A, 3 A and 5 A / <br> / <br> Custom designs on request / <br> / <br> / <br><b> Applications / <br> / <br></b> Perfectly suitable for switching regulators from / <br> – Texas Instruments (LM) / <br> – Linear Technology (LT) / <br>– Maxim / <br> / <br> Used for example in switching power supplies and voltage transformers / <br> / <br> Switching regulators up to 100 kHz / <br> / <br> / <br> / <br><a href="http://katalog.we-online.de/media/images/eisos/IndSI_pf2.jpg" title="Enlarge picture"> / <img src="http://katalog.we-online.de/media/images/eisos/IndSI_pf2.jpg" width="320"></a><p> / Details see: <a href="http://katalog.we-online.de/en/pbs/WE-SI/744101">http://katalog.we-online.de/en/pbs/WE-SI/744101</a><p> / </b>Updated  by  Dan Xu 2014-06-10<br> / </b>2014 (C) Wurth Elektronik
footprint WE-SI_744131
pins: 1, 2

## WE-SI_744132
designator L?, comment <br> Leaded Toroidal Storage Choke / <br> / <br> / <br><b> Characteristics / <br> / <br></b></b> Low magnetic stray field / <br> / <br> Low leakage and minimal noise because of the toroidal core made of iron powder / <br> / <br> Available for rated currents 0.5 A, 1 A, 3 A and 5 A / <br> / <br> Custom designs on request / <br> / <br> / <br><b> Applications / <br> / <br></b> Perfectly suitable for switching regulators from / <br> – Texas Instruments (LM) / <br> – Linear Technology (LT) / <br>– Maxim / <br> / <br> Used for example in switching power supplies and voltage transformers / <br> / <br> Switching regulators up to 100 kHz / <br> / <br> / <br> / <br><a href="http://katalog.we-online.de/media/images/eisos/IndSI_pf2.jpg" title="Enlarge picture"> / <img src="http://katalog.we-online.de/media/images/eisos/IndSI_pf2.jpg" width="320"></a><p> / Details see: <a href="http://katalog.we-online.de/en/pbs/WE-SI/744101">http://katalog.we-online.de/en/pbs/WE-SI/744101</a><p> / </b>Updated  by  Dan Xu 2014-06-10<br> / </b>2014 (C) Wurth Elektronik
footprint WE-SI_744132
pins: 1, 2

## WE-SI_744133
designator L?, comment <br> Leaded Toroidal Storage Choke / <br> / <br> / <br><b> Characteristics / <br> / <br></b></b> Low magnetic stray field / <br> / <br> Low leakage and minimal noise because of the toroidal core made of iron powder / <br> / <br> Available for rated currents 0.5 A, 1 A, 3 A and 5 A / <br> / <br> Custom designs on request / <br> / <br> / <br><b> Applications / <br> / <br></b> Perfectly suitable for switching regulators from / <br> – Texas Instruments (LM) / <br> – Linear Technology (LT) / <br>– Maxim / <br> / <br> Used for example in switching power supplies and voltage transformers / <br> / <br> Switching regulators up to 100 kHz / <br> / <br> / <br> / <br><a href="http://katalog.we-online.de/media/images/eisos/IndSI_pf2.jpg" title="Enlarge picture"> / <img src="http://katalog.we-online.de/media/images/eisos/IndSI_pf2.jpg" width="320"></a><p> / Details see: <a href="http://katalog.we-online.de/en/pbs/WE-SI/744101">http://katalog.we-online.de/en/pbs/WE-SI/744101</a><p> / </b>Updated  by  Dan Xu 2014-06-10<br> / </b>2014 (C) Wurth Elektronik
footprint WE-SI_744133
pins: 1, 2

## WE-SI_744134
designator L?, comment <br> Leaded Toroidal Storage Choke / <br> / <br> / <br><b> Characteristics / <br> / <br></b></b> Low magnetic stray field / <br> / <br> Low leakage and minimal noise because of the toroidal core made of iron powder / <br> / <br> Available for rated currents 0.5 A, 1 A, 3 A and 5 A / <br> / <br> Custom designs on request / <br> / <br> / <br><b> Applications / <br> / <br></b> Perfectly suitable for switching regulators from / <br> – Texas Instruments (LM) / <br> – Linear Technology (LT) / <br>– Maxim / <br> / <br> Used for example in switching power supplies and voltage transformers / <br> / <br> Switching regulators up to 100 kHz / <br> / <br> / <br> / <br><a href="http://katalog.we-online.de/media/images/eisos/IndSI_pf2.jpg" title="Enlarge picture"> / <img src="http://katalog.we-online.de/media/images/eisos/IndSI_pf2.jpg" width="320"></a><p> / Details see: <a href="http://katalog.we-online.de/en/pbs/WE-SI/744101">http://katalog.we-online.de/en/pbs/WE-SI/744101</a><p> / </b>Updated  by  Dan Xu 2014-06-10<br> / </b>2014 (C) Wurth Elektronik
footprint WE-SI_744134
pins: 1, 2

## WE-SI_744135
designator L?, comment <br> Leaded Toroidal Storage Choke / <br> / <br> / <br><b> Characteristics / <br> / <br></b></b> Low magnetic stray field / <br> / <br> Low leakage and minimal noise because of the toroidal core made of iron powder / <br> / <br> Available for rated currents 0.5 A, 1 A, 3 A and 5 A / <br> / <br> Custom designs on request / <br> / <br> / <br><b> Applications / <br> / <br></b> Perfectly suitable for switching regulators from / <br> – Texas Instruments (LM) / <br> – Linear Technology (LT) / <br>– Maxim / <br> / <br> Used for example in switching power supplies and voltage transformers / <br> / <br> Switching regulators up to 100 kHz / <br> / <br> / <br> / <br><a href="http://katalog.we-online.de/media/images/eisos/IndSI_pf2.jpg" title="Enlarge picture"> / <img src="http://katalog.we-online.de/media/images/eisos/IndSI_pf2.jpg" width="320"></a><p> / Details see: <a href="http://katalog.we-online.de/en/pbs/WE-SI/744101">http://katalog.we-online.de/en/pbs/WE-SI/744101</a><p> / </b>Updated  by  Dan Xu 2014-06-10<br> / </b>2014 (C) Wurth Elektronik
footprint WE-SI_744135
pins: 1, 2

## WE-SI_744136
designator L?, comment <br> Leaded Toroidal Storage Choke / <br> / <br> / <br><b> Characteristics / <br> / <br></b></b> Low magnetic stray field / <br> / <br> Low leakage and minimal noise because of the toroidal core made of iron powder / <br> / <br> Available for rated currents 0.5 A, 1 A, 3 A and 5 A / <br> / <br> Custom designs on request / <br> / <br> / <br><b> Applications / <br> / <br></b> Perfectly suitable for switching regulators from / <br> – Texas Instruments (LM) / <br> – Linear Technology (LT) / <br>– Maxim / <br> / <br> Used for example in switching power supplies and voltage transformers / <br> / <br> Switching regulators up to 100 kHz / <br> / <br> / <br> / <br><a href="http://katalog.we-online.de/media/images/eisos/IndSI_pf2.jpg" title="Enlarge picture"> / <img src="http://katalog.we-online.de/media/images/eisos/IndSI_pf2.jpg" width="320"></a><p> / Details see: <a href="http://katalog.we-online.de/en/pbs/WE-SI/744101">http://katalog.we-online.de/en/pbs/WE-SI/744101</a><p> / </b>Updated  by  Dan Xu 2014-06-10<br> / </b>2014 (C) Wurth Elektronik
footprint WE-SI_744136
pins: 1, 2

## WE-SI_744137
designator L?, comment <br> Leaded Toroidal Storage Choke / <br> / <br> / <br><b> Characteristics / <br> / <br></b></b> Low magnetic stray field / <br> / <br> Low leakage and minimal noise because of the toroidal core made of iron powder / <br> / <br> Available for rated currents 0.5 A, 1 A, 3 A and 5 A / <br> / <br> Custom designs on request / <br> / <br> / <br><b> Applications / <br> / <br></b> Perfectly suitable for switching regulators from / <br> – Texas Instruments (LM) / <br> – Linear Technology (LT) / <br>– Maxim / <br> / <br> Used for example in switching power supplies and voltage transformers / <br> / <br> Switching regulators up to 100 kHz / <br> / <br> / <br> / <br><a href="http://katalog.we-online.de/media/images/eisos/IndSI_pf2.jpg" title="Enlarge picture"> / <img src="http://katalog.we-online.de/media/images/eisos/IndSI_pf2.jpg" width="320"></a><p> / Details see: <a href="http://katalog.we-online.de/en/pbs/WE-SI/744101">http://katalog.we-online.de/en/pbs/WE-SI/744101</a><p> / </b>Updated  by  Dan Xu 2014-06-10<br> / </b>2014 (C) Wurth Elektronik
footprint WE-SI_744137
pins: 1, 2

## WE-SI_744138
designator L?, comment <br> Leaded Toroidal Storage Choke / <br> / <br> / <br><b> Characteristics / <br> / <br></b></b> Low magnetic stray field / <br> / <br> Low leakage and minimal noise because of the toroidal core made of iron powder / <br> / <br> Available for rated currents 0.5 A, 1 A, 3 A and 5 A / <br> / <br> Custom designs on request / <br> / <br> / <br><b> Applications / <br> / <br></b> Perfectly suitable for switching regulators from / <br> – Texas Instruments (LM) / <br> – Linear Technology (LT) / <br>– Maxim / <br> / <br> Used for example in switching power supplies and voltage transformers / <br> / <br> Switching regulators up to 100 kHz / <br> / <br> / <br> / <br><a href="http://katalog.we-online.de/media/images/eisos/IndSI_pf2.jpg" title="Enlarge picture"> / <img src="http://katalog.we-online.de/media/images/eisos/IndSI_pf2.jpg" width="320"></a><p> / Details see: <a href="http://katalog.we-online.de/en/pbs/WE-SI/744101">http://katalog.we-online.de/en/pbs/WE-SI/744101</a><p> / </b>Updated  by  Dan Xu 2014-06-10<br> / </b>2014 (C) Wurth Elektronik
footprint WE-SI_744138
pins: 1, 2

## WE-SI_744139
designator L?, comment <br> Leaded Toroidal Storage Choke / <br> / <br> / <br><b> Characteristics / <br> / <br></b></b> Low magnetic stray field / <br> / <br> Low leakage and minimal noise because of the toroidal core made of iron powder / <br> / <br> Available for rated currents 0.5 A, 1 A, 3 A and 5 A / <br> / <br> Custom designs on request / <br> / <br> / <br><b> Applications / <br> / <br></b> Perfectly suitable for switching regulators from / <br> – Texas Instruments (LM) / <br> – Linear Technology (LT) / <br>– Maxim / <br> / <br> Used for example in switching power supplies and voltage transformers / <br> / <br> Switching regulators up to 100 kHz / <br> / <br> / <br> / <br><a href="http://katalog.we-online.de/media/images/eisos/IndSI_pf2.jpg" title="Enlarge picture"> / <img src="http://katalog.we-online.de/media/images/eisos/IndSI_pf2.jpg" width="320"></a><p> / Details see: <a href="http://katalog.we-online.de/en/pbs/WE-SI/744101">http://katalog.we-online.de/en/pbs/WE-SI/744101</a><p> / </b>Updated  by  Dan Xu 2014-06-10<br> / </b>2014 (C) Wurth Elektronik
footprint WE-SI_744139
pins: 1, 2

## WE-SI_744150
designator L?, comment <br> Leaded Toroidal Storage Choke / <br> / <br> / <br><b> Characteristics / <br> / <br></b></b> Low magnetic stray field / <br> / <br> Low leakage and minimal noise because of the toroidal core made of iron powder / <br> / <br> Available for rated currents 0.5 A, 1 A, 3 A and 5 A / <br> / <br> Custom designs on request / <br> / <br> / <br><b> Applications / <br> / <br></b> Perfectly suitable for switching regulators from / <br> – Texas Instruments (LM) / <br> – Linear Technology (LT) / <br>– Maxim / <br> / <br> Used for example in switching power supplies and voltage transformers / <br> / <br> Switching regulators up to 100 kHz / <br> / <br> / <br> / <br><a href="http://katalog.we-online.de/media/images/eisos/IndSI_pf2.jpg" title="Enlarge picture"> / <img src="http://katalog.we-online.de/media/images/eisos/IndSI_pf2.jpg" width="320"></a><p> / Details see: <a href="http://katalog.we-online.de/en/pbs/WE-SI/744101">http://katalog.we-online.de/en/pbs/WE-SI/744101</a><p> / </b>Updated  by  Dan Xu 2014-06-10<br> / </b>2014 (C) Wurth Elektronik
footprint WE-SI_744150
pins: 1, 2